# EAGLE library part AMG8833 (library openag-sensors)
Panasonic Electronic Components - AMG8833 - SENSOR GRID-EYE 3.3V HIGH GAIN Description: Temperature Sensor Digital, Infrared (IR) 14-SMD Module Technical Specifications: Sensor Type: Digital, Infrared (IR) Sensing Temperature - Remote: 0°C ~ 80°C (IR) Output Type: I²C Voltage - Supply: 3.3V Features: Sleep Mode, Standby Mode Accuracy - Highest (Lowest): ±2.5°C Test Condition: 0°C ~ 80°C Operating Temperature: 0°C ~ 80°C Mounting Type: Surface Mount Package / Case: 14-SMD Module Supplier Device Package: 14-SMD Module Datasheet(s): AMG88x3,4 Grid-EYE® Sensor Datasheet <//media.digikey.com/pdf/Data%20Sheets/Panasonic%20Sensors%20PDFs/Grid-EYE_AMG88.pdf> Built-in Sensors Catalog <https://industrial.panasonic.com/content/data/CP/PDF/built-in_sensor_catalog_e.pdf> Grid-EYE AMG88 Safety Precautions <http://industrial.panasonic.com/cdbs/www-data/pdf/ADI8000/ADI8000COL2.pdf> Passive Infrared Sensors Selection Guide <https://na.industrial.panasonic.com/sites/default/pidsa/files/downloads/files/pir_sensors_guide.pdf> Vendor(s): Digikey: P19002CT-ND <https://www.digikey.com/short/qjp7rn>
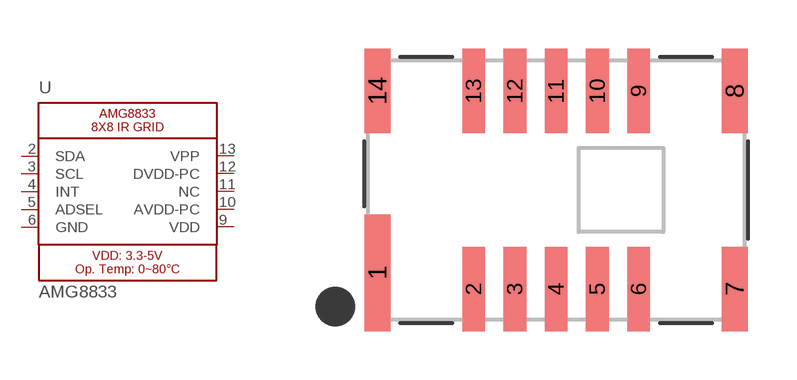
[diagram p3: symbol with the pads of AMG8833; footprint AMG8833]

Designator prefix U

## AMG8833 (VALUE: AMG8833)  [AMG8833]
2  SDA
3  SCL
4  INT  out
5  ADSEL  in
6  GND  pwr
9  VDD  pwr
10  AVDD-PC  pwr
11  NC
12  DVDD-PC  pwr
13  VPP  pwr

## Footprint AMG8833 (pad centres in mm)
smd 0.8 x 3.6: 1 -5.5,-2.55
smd 0.7 x 2.6: 2 -2.54,-3.05; 3 -1.27,-3.05; 4 0,-3.05; 5 1.27,-3.05; 6 2.54,-3.05; 9 2.54,3.05; 10 1.27,3.05; 11 0,3.05; 12 -1.27,3.05; 13 -2.54,3.05
smd 0.8 x 2.6: 7 5.5,-3.05; 8 5.5,3.05; 14 -5.5,3.05